# Altium schematic symbol library Phoenix Contact 1720466.SchLib: 1 symbol
Pins are listed as number, name and electrical type; pins without a type are passive.

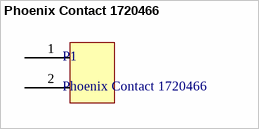
[diagram p0: symbol Phoenix Contact 1720466]

## Phoenix Contact 1720466
designator P1
footprint Phoenix Contact 1720466 (Footprint not found)
pins: 1, 2